# EAGLE library part BLUETOOTH-RN-52 (library PartsForProto)
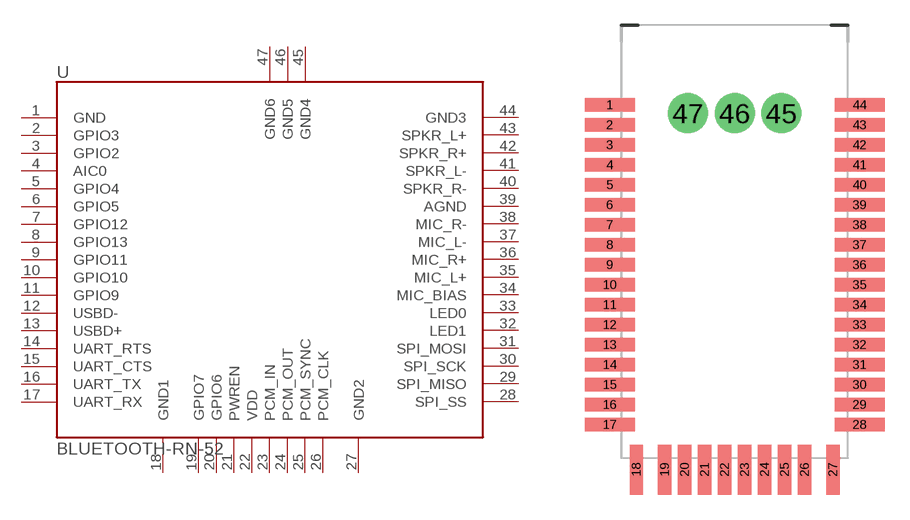
[diagram p5: symbol with the pads of RN-52; footprint RN-52]

Designator prefix U

## BLUETOOTH-RN-52  [RN-52]
1  GND  pas
2  GPIO3
3  GPIO2
4  AIC0
5  GPIO4
6  GPIO5
7  GPIO12
8  GPIO13
9  GPIO11
10  GPIO10
11  GPIO9
12  USBD-
13  USBD+
14  UART_RTS
15  UART_CTS
16  UART_TX
17  UART_RX
18  GND1  pas
19  GPIO7
20  GPIO6
21  PWREN
22  VDD  pas
23  PCM_IN
24  PCM_OUT
25  PCM_SYNC
26  PCM_CLK
27  GND2  pas
28  SPI_SS
29  SPI_MISO
30  SPI_SCK
31  SPI_MOSI
32  LED1
33  LED0
34  MIC_BIAS
35  MIC_L+
36  MIC_R+
37  MIC_L-
38  MIC_R-
39  AGND  pas
40  SPKR_R-
41  SPKR_L-
42  SPKR_R+
43  SPKR_L+
44  GND3  pas
45  GND4  pas
46  GND5  pas
47  GND6  pas

## Footprint RN-52 (pad centres in mm)
smd 3 x 0.8: 1 -7.5,9.53; 2 -7.5,8.33; 3 -7.5,7.13; 4 -7.5,5.93; 5 -7.5,4.73; 6 -7.5,3.53; 7 -7.5,2.33; 8 -7.5,1.13; 9 -7.5,-0.07; 10 -7.5,-1.27; 11 -7.5,-2.47; 12 -7.5,-3.67; 13 -7.5,-4.87; 14 -7.5,-6.07; 15 -7.5,-7.27; 16 -7.5,-8.47; 17 -7.5,-9.67; 28 7.5,-9.67; 29 7.5,-8.47; 30 7.5,-7.27; 31 7.5,-6.07; 32 7.5,-4.87; 33 7.5,-3.67; 34 7.5,-2.47; 35 7.5,-1.27; 36 7.5,-0.07; 37 7.5,1.13; 38 7.5,2.33; 39 7.5,3.53; 40 7.5,4.73; 41 7.5,5.93; 42 7.5,7.13; 43 7.5,8.33; 44 7.5,9.53
smd 0.8 x 3: 18 -5.9,-12.37; 19 -4.2,-12.37; 20 -3,-12.37; 21 -1.8,-12.37; 22 -0.6,-12.37; 23 0.6,-12.37; 24 1.8,-12.37; 25 3,-12.37; 26 4.2,-12.37; 27 5.9,-12.37
drill 1.6 pad 2.4: 45 2.8,9.03; 46 0,9.03; 47 -2.8,9.03